# EAGLE library part 87759-44 (library con-molex-milli-grid)
HEADER
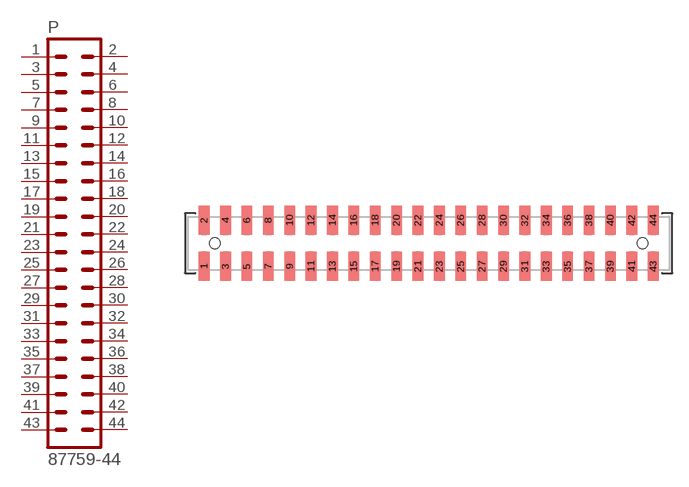
[diagram p133: symbol with the pads of 87759-44; footprint 87759-44]

Designator prefix P

## 87759-44  [87759-44]
1  1  pas
2  2  pas
3  3  pas
4  4  pas
5  5  pas
6  6  pas
7  7  pas
8  8  pas
9  9  pas
10  10  pas
11  11  pas
12  12  pas
13  13  pas
14  14  pas
15  15  pas
16  16  pas
17  17  pas
18  18  pas
19  19  pas
20  20  pas
21  21  pas
22  22  pas
23  23  pas
24  24  pas
25  25  pas
26  26  pas
27  27  pas
28  28  pas
29  29  pas
30  30  pas
31  31  pas
32  32  pas
33  33  pas
34  34  pas
35  35  pas
36  36  pas
37  37  pas
38  38  pas
39  39  pas
40  40  pas
41  41  pas
42  42  pas
43  43  pas
44  44  pas

## Footprint 87759-44 (pad centres in mm)
HEADER SMD Dual Row, Vertical
smd 1 x 2.75: 1 -21,-2.15; 2 -21,2.15; 3 -19,-2.15; 4 -19,2.15; 5 -17,-2.15; 6 -17,2.15; 7 -15,-2.15; 8 -15,2.15; 9 -13,-2.15; 10 -13,2.15; 11 -11,-2.15; 12 -11,2.15; 13 -9,-2.15; 14 -9,2.15; 15 -7,-2.15; 16 -7,2.15; 17 -5,-2.15; 18 -5,2.15; 19 -3,-2.15; 20 -3,2.15; 21 -1,-2.15; 22 -1,2.15; 23 1,-2.15; 24 1,2.15; 25 3,-2.15; 26 3,2.15; 27 5,-2.15; 28 5,2.15; 29 7,-2.15; 30 7,2.15; 31 9,-2.15; 32 9,2.15; 33 11,-2.15; 34 11,2.15; 35 13,-2.15; 36 13,2.15; 37 15,-2.15; 38 15,2.15; 39 17,-2.15; 40 17,2.15; 41 19,-2.15; 42 19,2.15; 43 21,-2.15; 44 21,2.15
hole 1 at -20,0
hole 1 at 20,0